# Altium schematic symbol library SMD Passive.SchLib: 12 symbols
Pins are listed as number, name and electrical type; pins without a type are passive.

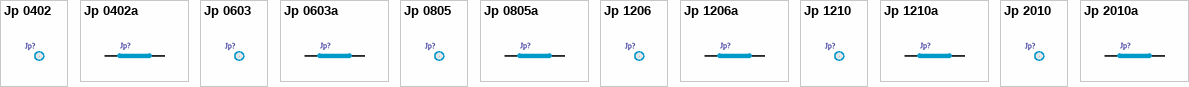
[diagram p0: symbols Jp 0402 to Jp 2010a]

## Jp 0402
designator Jp?, comment 0.05  (value not drawn)
SMD 0402 0 Ω; Part Number: 0603SAJ000JT50; Manufacturer: UniOhm; Value 1: 0; Tolerance %: ±5%; Package-mm: 1005; Current: 1A; Resistance: <50mΩ; Mount Type: SMT; Publisher: Hefest; Manufacturer Alternate: *; Published: 07.04.2019; Supplier 1: Comet; Supplier Part Number 1: R0402 0R 5%; RoHS: Y; Technology: Thick film; Package: 0402; VDC: *; TempCo: *; ComponentLink1Description: Datasheet Link; ComponentLink1URL: https://store.comet.bg/download-file.php?id=1225; Temperature Range: -55°C ~ +125°C; Price: 0.011; Part Number Alternate: *; TYPE: Jumper; Value: 0.05; Value Code: 0; Power: *
footprint J 0402(1005)
simulation model Resistor (Model Description)
signal-integrity model Resistor (Model Description)
pins: 1, 2

## Jp 0402a
designator Jp?, comment 0.05  (value not drawn)
SMD 0402 0 Ω; Part Number: 0603SAJ000JT50; Manufacturer: UniOhm; Tolerance %: ±5%; Package-mm: 1005; Value Code: 0; Current: 1A; Resistance: <50mΩ; Mount Type: SMT; Publisher: Hefest; Manufacturer Alternate: *; Published: 07.04.2019; Supplier 1: Comet; Supplier Part Number 1: R0603 0R 5%; RoHS: Y; Technology: Thick film; Package: 0402; VDC: *; TempCo: *; ComponentLink1Description: Datasheet Link; ComponentLink1URL: https://store.comet.bg/download-file.php?id=1225; Temperature Range: -55°C ~ +125°C; Price: 0.011; Part Number Alternate: *; TYPE: Jumper; Value: 0.05; Power: *; Value 1: 0
footprint J 0402(1005)A
simulation model Resistor (Model Description)
signal-integrity model Resistor (Model Description)
pins: 1, 2
1 alternate drawing of the same symbol

## Jp 0603
designator Jp?, comment 0.05  (value not drawn)
SMD 0603 0 Ω; Part Number: 0603SAJ000JT50; Manufacturer: UniOhm; Tolerance %: ±5%; Package-mm: 1608; Value Code: 0; Current: 1A; Resistance: <50mΩ; Mount Type: SMT; Publisher: Hefest; Manufacturer Alternate: *; Published: 07.04.2019; Supplier 1: Comet; Supplier Part Number 1: R0603 0R 5%; RoHS: Y; Technology: Thick film; Package: 0603; VDC: *; TempCo: *; ComponentLink1Description: Datasheet Link; ComponentLink1URL: https://store.comet.bg/download-file.php?id=1225; Temperature Range: -55°C ~ +125°C; Price: 0.012; Part Number Alternate: *; TYPE: Jumper; Power: *; Value: 0.05; Value 1: 0
footprint J 0603(1608)
simulation model Resistor (Model Description)
signal-integrity model Resistor (Model Description)
pins: 1, 2

## Jp 0603a
designator Jp?, comment 0.05  (value not drawn)
SMD 0603 0 Ω; Part Number: 0603SAJ000JT50; Manufacturer: UniOhm; Tolerance %: ±5%; Value 1: 0; Package-mm: 1608; Current: 1A; Resistance: <50mΩ; Mount Type: SMT; Publisher: Hefest; Manufacturer Alternate: *; Published: 07.04.2019; Supplier 1: Comet; Supplier Part Number 1: R0603 0R 5%; RoHS: Y; Technology: Thick film; Package: 0603; VDC: *; TempCo: *; ComponentLink1Description: Datasheet Link; ComponentLink1URL: https://store.comet.bg/download-file.php?id=1225; Temperature Range: -55°C ~ +125°C; Price: 0.012; Part Number Alternate: *; TYPE: Jumper; Value Code: 0; Power: *; Value: 0.05
footprint J 0603(1608)A
simulation model Resistor (Model Description)
signal-integrity model Resistor (Model Description)
pins: 1, 2
1 alternate drawing of the same symbol

## Jp 0805
designator Jp?, comment 0.05  (value not drawn)
SMD 0805 0 Ω; Part Number: 0805S8J000JT50; Manufacturer: UniOhm; Tolerance %: ±5%; Value 1: 0; Package-mm: 2012; Current: 2A; Resistance: <50mΩ; Mount Type: SMT; Publisher: Hefest; Manufacturer Alternate: *; Published: 07.04.2019; Supplier 1: Comet; Supplier Part Number 1: R0805 0R 5%; RoHS: Y; Technology: Thick film; Package: 0805; VDC: *; TempCo: *; ComponentLink1Description: Datasheet Link; ComponentLink1URL: https://store.comet.bg/download-file.php?id=1225; Temperature Range: -55°C ~ +125°C; Price: 0.018; Part Number Alternate: *; TYPE: Jumper; Value Code: 0; Power: *; Value: 0.05
footprint J 0805(2012)
simulation model Resistor (Model Description)
signal-integrity model Resistor (Model Description)
pins: 1, 2

## Jp 0805a
designator Jp?, comment 0.05  (value not drawn)
SMD 0805 0 Ω; Part Number: 0805S8J000JT50; Manufacturer: UniOhm; Tolerance %: ±5%; Value 1: 0; Package-mm: 2012; Current: 2A; Resistance: <50mΩ; Mount Type: SMT; Publisher: Hefest; Manufacturer Alternate: *; Published: 07.04.2019; Supplier 1: Comet; Supplier Part Number 1: R0805 0R 5%; RoHS: Y; Technology: Thick film; Package: 0805; VDC: *; TempCo: *; ComponentLink1Description: Datasheet Link; ComponentLink1URL: https://store.comet.bg/download-file.php?id=1225; Temperature Range: -55°C ~ +125°C; Price: 0.018; Part Number Alternate: *; TYPE: Jumper; Value Code: 0; Power: *; Value: 0.05
footprint J 0805(2012)A
simulation model Resistor (Model Description)
signal-integrity model Resistor (Model Description)
pins: 1, 2
1 alternate drawing of the same symbol

## Jp 1206
designator Jp?, comment 0.05  (value not drawn)
SMD 1206 0 Ω; Part Number: 1206S4J000JT50; Manufacturer: UniOhm; Tolerance %: ±5%; Value 1: 0; Package-mm: 3216; Current: 2A; Resistance: <50mΩ; Mount Type: SMT; Publisher: Hefest; Manufacturer Alternate: *; Published: 07.04.2019; Supplier 1: Comet; Supplier Part Number 1: R1206 0R 5%; RoHS: Y; Technology: Thick film; Package: 1206; VDC: *; TempCo: *; ComponentLink1Description: Datasheet Link; ComponentLink1URL: https://store.comet.bg/download-file.php?id=1225; Temperature Range: -55°C ~ +125°C; Price: 0.028; Part Number Alternate: *; TYPE: Jumper; Value Code: 0; Power: *; Value: 0.05
footprint J 1206(3216)
simulation model Resistor (Model Description)
signal-integrity model Resistor (Model Description)
pins: 1, 2

## Jp 1206a
designator Jp?, comment 0.05  (value not drawn)
SMD 1206 0 Ω; Part Number: 1206S4J000JT50; Manufacturer: UniOhm; Tolerance %: ±5%; Value 1: 0; Package-mm: 3216; Current: 2A; Resistance: <50mΩ; Mount Type: SMT; Publisher: Hefest; Manufacturer Alternate: *; Published: 07.04.2019; Supplier 1: Comet; Supplier Part Number 1: R1206 0R 5%; RoHS: Y; Technology: Thick film; Package: 1206; VDC: *; TempCo: *; ComponentLink1Description: Datasheet Link; ComponentLink1URL: https://store.comet.bg/download-file.php?id=1225; Temperature Range: -55°C ~ +125°C; Price: 0.028; Part Number Alternate: *; TYPE: Jumper; Value Code: 0; Power: *; Value: 0.05
footprint J 1206(3216)A
simulation model Resistor (Model Description)
signal-integrity model Resistor (Model Description)
pins: 1, 2
1 alternate drawing of the same symbol

## Jp 1210
designator Jp?, comment 0.05  (value not drawn)
SMD 1210 0 Ω; Manufacturer: UniOhm; Tolerance %: ±5%; Value 1: 0; Package-mm: 3225; Current: 2A; Resistance: <50mΩ; Part Number: *; Mount Type: SMT; Publisher: Hefest; Manufacturer Alternate: *; Published: 07.04.2019; Supplier 1: Comet; Supplier Part Number 1: *; RoHS: Y; Technology: Thick film; Package: 1210; VDC: *; TempCo: *; ComponentLink1Description: Datasheet Link; ComponentLink1URL: https://store.comet.bg/download-file.php?id=1225; Temperature Range: -55°C ~ +125°C; Price: 0.028; Part Number Alternate: *; TYPE: Jumper; Value Code: 0; Power: *; Value: 0.05
footprint J 1210(3225)
simulation model Resistor (Model Description)
signal-integrity model Resistor (Model Description)
pins: 1, 2

## Jp 1210a
designator Jp?, comment 0.05  (value not drawn)
SMD 1210 0 Ω; Manufacturer: UniOhm; Tolerance %: ±5%; Value 1: 0; Package-mm: 3225; Current: 2A; Resistance: <50mΩ; Part Number: *; Mount Type: SMT; Publisher: Hefest; Manufacturer Alternate: *; Published: 07.04.2019; Supplier 1: Comet; Supplier Part Number 1: *; RoHS: Y; Technology: Thick film; Package: 1210; VDC: *; TempCo: *; ComponentLink1Description: Datasheet Link; ComponentLink1URL: https://store.comet.bg/download-file.php?id=1225; Temperature Range: -55°C ~ +125°C; Price: *; Part Number Alternate: *; TYPE: Jumper; Value Code: 0; Power: *; Value: 0.05
footprint J 1210(3225)A
simulation model Resistor (Model Description)
signal-integrity model Resistor (Model Description)
pins: 1, 2
1 alternate drawing of the same symbol

## Jp 2010
designator Jp?, comment 0.05  (value not drawn)
SMD 2010 0 Ω; Part Number: RC2010JK-070R; Manufacturer: YAGEO; Tolerance %: ±5%; Value 1: 0; Package-mm: 5025; Current: 2A; Resistance: <50mΩ; Mount Type: SMT; Publisher: Hefest; Manufacturer Alternate: *; Published: 07.04.2019; Supplier 1: Comet; Supplier Part Number 1: R2010 0R 5% YAG/ASJ; RoHS: Y; Technology: Thick film; Package: 2010; VDC: *; TempCo: *; ComponentLink1Description: Datasheet Link; ComponentLink1URL: https://store.comet.bg/download-file.php?id=9407; Temperature Range: -55°C ~ +155°C; Price: 0.142; Part Number Alternate: *; TYPE: Jumper; Value Code: 0; Power: *; Value: 0.05
footprint R 2010(5025)
simulation model Resistor (Model Description)
signal-integrity model Resistor (Model Description)
pins: 1, 2

## Jp 2010a
designator Jp?, comment 0.05  (value not drawn)
SMD 2010 0 Ω; Part Number: RC2010JK-070R; Manufacturer: UniOhm; Tolerance %: ±5%; Value 1: 0; Package-mm: 5025; Current: 2A; Resistance: <50mΩ; Mount Type: SMT; Publisher: Hefest; Manufacturer Alternate: *; Published: 07.04.2019; Supplier 1: Comet; Supplier Part Number 1: R2010 0R 5% YAG/ASJ; RoHS: Y; Technology: Thick film; Package: 2010; VDC: *; TempCo: *; ComponentLink1Description: Datasheet Link; ComponentLink1URL: https://store.comet.bg/download-file.php?id=9407; Temperature Range: -55°C ~ +155°C; Price: 0.142; Part Number Alternate: *; TYPE: Jumper; Value Code: 0; Power: *; Value: 0.05
footprint R 2010(5025)
simulation model Resistor (Model Description)
signal-integrity model Resistor (Model Description)
pins: 1, 2
1 alternate drawing of the same symbol